# Altium footprint library ft232rl.PcbLib: 4 footprints
Each footprint in its own frame and in the unit in brackets; x right, y up, seen from the top. Pads: shape width x height; smd on the part's side, far side on the other; paste and mask are expansions set on the pad; w line width, h text height; cw(c..) or ccw(c..) is an arc to the next point about the centre after c.
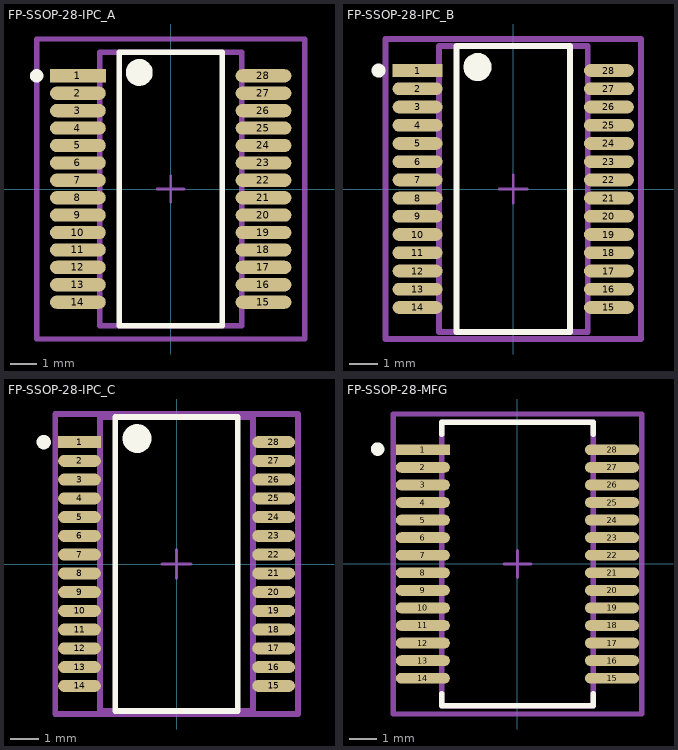
[diagram p0: the footprints below, top view; thin cyan lines are the x and y axes]

## FP-SSOP-28-IPC_A [mm]
pads (28):
  rect 2.082x0.495 smd paste+0 mask+0: 1(-3.464,4.225)
  rrect100% 2.082x0.495 smd paste+0 mask+0: 2(-3.464,3.575) 3(-3.464,2.925) 4(-3.464,2.275) 5(-3.464,1.625) 6(-3.464,0.975) 7(-3.464,0.325) 8(-3.464,-0.325) 9(-3.464,-0.975) 10(-3.464,-1.625) 11(-3.464,-2.275) 12(-3.464,-2.925) 13(-3.464,-3.575) 14(-3.464,-4.225) 15(3.464,-4.225) 16(3.464,-3.575) 17(3.464,-2.925) 18(3.464,-2.275) 19(3.464,-1.625) 20(3.464,-0.975) 21(3.464,-0.325) 22(3.464,0.325) 23(3.464,0.975) 24(3.464,1.625) 25(3.464,2.275) 26(3.464,2.925) 27(3.464,3.575) 28(3.464,4.225)
Top Overlay:
  circle w0.5: c-1.173,4.35 r0.25
  circle w0.25: c-5.005,4.225 r0.125
  lines w0.2: -1.923,-5.1 1.923,-5.1 1.923,5.1 -1.923,5.1 -1.923,-5.1
Top Assembly:
  lines w0.2: -5.005,-5.6 5.005,-5.6 5.005,5.6 -5.005,5.6 -5.005,-5.6
  text ".Designator" at 0,-0.001 h1
Top 3D Body:
  lines w0.2: -2.65,-5.1 2.65,-5.1 2.65,5.1 -2.65,5.1 -2.65,-5.1
Top Courtyard:
  lines w0.2: -5.005,-5.6 5.005,-5.6 5.005,5.6 -5.005,5.6 -5.005,-5.6
Top Component Center:
  lines w0.1: -0.5,0 0.5,0 ; 0,-0.5 0,0.5
3D body "IC_FTDI_FT232RL-REEL_eec.STEP": height 0.25, standoff 0, extent -5.005,-5.6 5.005,5.6

## FP-SSOP-28-IPC_B [mm]
pads (28):
  rect 1.782x0.455 smd paste+0 mask+0: 1(-3.414,4.225)
  rrect100% 1.782x0.455 smd paste+0 mask+0: 2(-3.414,3.575) 3(-3.414,2.925) 4(-3.414,2.275) 5(-3.414,1.625) 6(-3.414,0.975) 7(-3.414,0.325) 8(-3.414,-0.325) 9(-3.414,-0.975) 10(-3.414,-1.625) 11(-3.414,-2.275) 12(-3.414,-2.925) 13(-3.414,-3.575) 14(-3.414,-4.225) 15(3.414,-4.225) 16(3.414,-3.575) 17(3.414,-2.925) 18(3.414,-2.275) 19(3.414,-1.625) 20(3.414,-0.975) 21(3.414,-0.325) 22(3.414,0.325) 23(3.414,0.975) 24(3.414,1.625) 25(3.414,2.275) 26(3.414,2.925) 27(3.414,3.575) 28(3.414,4.225)
Top Overlay:
  circle w0.5: c-1.273,4.35 r0.25
  circle w0.25: c-4.805,4.225 r0.125
  lines w0.2: -2.023,-5.1 2.023,-5.1 2.023,5.1 -2.023,5.1 -2.023,-5.1
Top Assembly:
  lines w0.2: -4.555,-5.35 4.555,-5.35 4.555,5.35 -4.555,5.35 -4.555,-5.35
  text ".Designator" at 0,-0.001 h1
Top 3D Body:
  lines w0.2: -2.65,-5.1 2.65,-5.1 2.65,5.1 -2.65,5.1 -2.65,-5.1
Top Courtyard:
  lines w0.2: -4.555,-5.35 4.555,-5.35 4.555,5.35 -4.555,5.35 -4.555,-5.35
Top Component Center:
  lines w0.1: -0.5,0 0.5,0 ; 0,-0.5 0,0.5
3D body "IC_FTDI_FT232RL-REEL_eec.STEP": height 0.25, standoff 0, extent -4.555,-5.35 4.555,5.35

## FP-SSOP-28-IPC_C [mm]
pads (28):
  rect 1.482x0.415 smd paste+0 mask+0: 1(-3.364,4.225)
  rrect100% 1.482x0.415 smd paste+0 mask+0: 2(-3.364,3.575) 3(-3.364,2.925) 4(-3.364,2.275) 5(-3.364,1.625) 6(-3.364,0.975) 7(-3.364,0.325) 8(-3.364,-0.325) 9(-3.364,-0.975) 10(-3.364,-1.625) 11(-3.364,-2.275) 12(-3.364,-2.925) 13(-3.364,-3.575) 14(-3.364,-4.225) 15(3.364,-4.225) 16(3.364,-3.575) 17(3.364,-2.925) 18(3.364,-2.275) 19(3.364,-1.625) 20(3.364,-0.975) 21(3.364,-0.325) 22(3.364,0.325) 23(3.364,0.975) 24(3.364,1.625) 25(3.364,2.275) 26(3.364,2.925) 27(3.364,3.575) 28(3.364,4.225)
Top Overlay:
  circle w0.5: c-1.373,4.35 r0.25
  circle w0.25: c-4.605,4.225 r0.125
  lines w0.2: -2.123,-5.1 2.123,-5.1 2.123,5.1 -2.123,5.1 -2.123,-5.1
Top Assembly:
  lines w0.2: -4.205,-5.2 4.205,-5.2 4.205,5.2 -4.205,5.2 -4.205,-5.2
  text ".Designator" at 0,-0.001 h1
Top 3D Body:
  lines w0.2: -2.65,-5.1 2.65,-5.1 2.65,5.1 -2.65,5.1 -2.65,-5.1
Top Courtyard:
  lines w0.2: -4.205,-5.2 4.205,-5.2 4.205,5.2 -4.205,5.2 -4.205,-5.2
Top Component Center:
  lines w0.1: -0.5,0 0.5,0 ; 0,-0.5 0,0.5
3D body "IC_FTDI_FT232RL-REEL_eec.STEP": height 0.25, standoff 0, extent -4.205,-5.2 4.205,5.2

## FP-SSOP-28-MFG [mm]
pads (28):
  rect 2x0.4 smd paste+0 mask+0: 1(-3.5,4.225)
  rrect100% 2x0.4 smd paste+0 mask+0: 2(-3.5,3.575) 3(-3.5,2.925) 4(-3.5,2.275) 5(-3.5,1.625) 6(-3.5,0.975) 7(-3.5,0.325) 8(-3.5,-0.325) 9(-3.5,-0.975) 10(-3.5,-1.625) 11(-3.5,-2.275) 12(-3.5,-2.925) 13(-3.5,-3.575) 14(-3.5,-4.225) 15(3.5,-4.225) 16(3.5,-3.575) 17(3.5,-2.925) 18(3.5,-2.275) 19(3.5,-1.625) 20(3.5,-0.975) 21(3.5,-0.325) 22(3.5,0.325) 23(3.5,0.975) 24(3.5,1.625) 25(3.5,2.275) 26(3.5,2.925) 27(3.5,3.575) 28(3.5,4.225)
Top Overlay:
  circle w0.25: c-5.175,4.25 r0.125
  lines w0.2: -2.8,-4.8 -2.8,-5.25 2.8,-5.25 2.8,-4.8 ; -2.8,4.8 -2.8,5.25 2.8,5.25 2.8,4.8
Top Assembly:
  lines w0.2: -4.6,-5.55 4.6,-5.55 4.6,5.55 -4.6,5.55 -4.6,-5.55
  text ".Designator" at 0,0.188 h1
Top 3D Body:
  lines w0.2: -2.8,-5.25 2.8,-5.25 2.8,5.25 -2.8,5.25 -2.8,-5.25
Top Courtyard:
  lines w0.2: -4.6,-5.55 4.6,-5.55 4.6,5.55 -4.6,5.55 -4.6,-5.55
Top Component Center:
  lines w0.1: -0.5,0 0.5,0 ; 0,-0.5 0,0.5
3D body "IC_FTDI_FT232RL-REEL_eec.STEP": height 0.25, standoff 0, extent -4.6,-5.55 4.6,5.55